# EAGLE library part ADS1112 (library texas_martin)
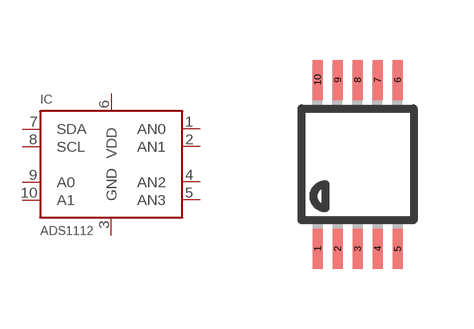
[diagram p2: symbol with the pads of MSOP10; footprint MSOP10]

Designator prefix IC

## ADS1112  [MSOP10]
1  AN0
2  AN1
3  GND  pwr
4  AN2
5  AN3
6  VDD  pwr
7  SDA
8  SCL
9  A0
10  A1

## Footprint MSOP10 (pad centres in mm)
10-Lead Mini Small Outline Package [MSOP] (RM-10) Source: http://www.analog.com/UploadedFiles/Data_Sheets/35641221898805SSM2167_b.pdf COMPLIANT TO JEDEC STANDARDS MO-187BA
smd 0.25 x 1: 1 -1,-2.113; 2 -0.5,-2.113; 3 0,-2.113; 4 0.5,-2.113; 5 1,-2.113; 6 1,2.113; 7 0.5,2.113; 8 0,2.113; 9 -0.5,2.113; 10 -1,2.113